# EAGLE library part 2X3HEADER (library sonos_library)
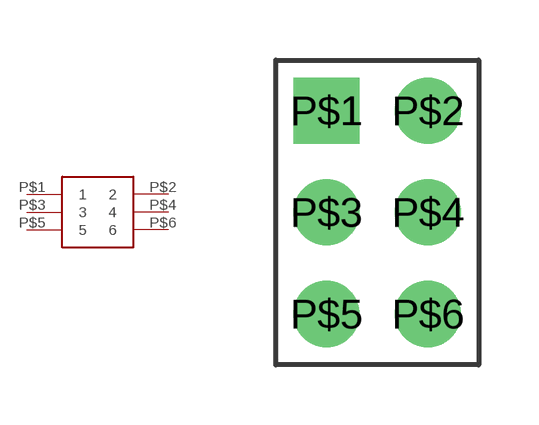
[diagram p1: symbol with the pads of 2X3HEADER; footprint 2X3HEADER]

Designator prefix -

## 2X3HEADER  [2X3HEADER]
P$1  1
P$2  2
P$3  3
P$4  4
P$5  5
P$6  6

## Footprint 2X3HEADER (pad centres in mm)
drill 1.016 pad 1.651 square: P$1 -1.27,2.54
drill 1.016 pad 1.651: P$2 1.27,2.54; P$3 -1.27,0; P$4 1.27,0; P$5 -1.27,-2.54; P$6 1.27,-2.54